# EAGLE library part DRV8353SRTAR (library DRV8353SRTAR)
Triple Half Bridge Motor Driver 40-Pin WQFN EP T/R Source: Datasheet <https://www.ti.com/general/docs/suppproductinfo.tsp?distId=10&gotoUrl=http%3A%2F%2Fwww.ti.com%2Flit%2Fgpn%2Fdrv8353>
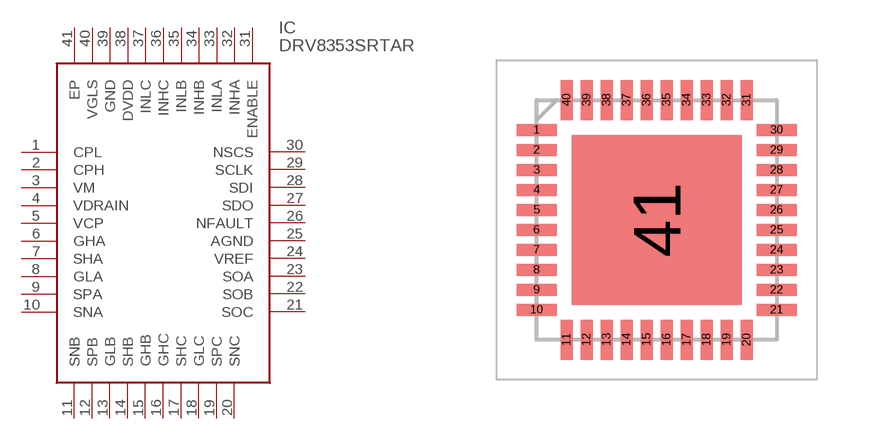
[diagram p0: symbol with the pads of QFN50P600X600X80-41M; footprint QFN50P600X600X80-41M]

Designator prefix IC

## DRV8353SRTAR (Description: Triple Half Bridge Motor Driver 40-Pin WQFN EP T/R; Height: 0.8mm; Manufacturer_Name: Texas Instruments; Manufacturer_Part_Number: DRV8353SRTAR; Mouser_Part_Number: 595-DRV8353SRTAR; Mouser_Price-Stock: https://www.mouser.co.uk/ProductDetail/Texas-Instruments/DRV8353SRTAR?qs=lc2O%252BfHJPVaoqU4BRWcLKw%3D%3D)  [QFN50P600X600X80-41M]
1  CPL
2  CPH
3  VM
4  VDRAIN
5  VCP
6  GHA
7  SHA
8  GLA
9  SPA
10  SNA
11  SNB
12  SPB
13  GLB
14  SHB
15  GHB
16  GHC
17  SHC
18  GLC
19  SPC
20  SNC
21  SOC
22  SOB
23  SOA
24  VREF
25  AGND
26  NFAULT
27  SDO
28  SDI
29  SCLK
30  NSCS
31  ENABLE
32  INHA
33  INLA
34  INHB
35  INLB
36  INHC
37  INLC
38  DVDD
39  GND
40  VGLS
41  EP

## Footprint QFN50P600X600X80-41M (pad centres in mm)
RTA(S-PQFP-N40)_3
smd 1 x 0.3: 1 -3,2.25; 2 -3,1.75; 3 -3,1.25; 4 -3,0.75; 5 -3,0.25; 6 -3,-0.25; 7 -3,-0.75; 8 -3,-1.25; 9 -3,-1.75; 10 -3,-2.25; 21 3,-2.25; 22 3,-1.75; 23 3,-1.25; 24 3,-0.75; 25 3,-0.25; 26 3,0.25; 27 3,0.75; 28 3,1.25; 29 3,1.75; 30 3,2.25
smd 0.3 x 1: 11 -2.25,-3; 12 -1.75,-3; 13 -1.25,-3; 14 -0.75,-3; 15 -0.25,-3; 16 0.25,-3; 17 0.75,-3; 18 1.25,-3; 19 1.75,-3; 20 2.25,-3; 31 2.25,3; 32 1.75,3; 33 1.25,3; 34 0.75,3; 35 0.25,3; 36 -0.25,3; 37 -0.75,3; 38 -1.25,3; 39 -1.75,3; 40 -2.25,3
smd 4.25 x 4.25: 41 0,0